# EAGLE library part DCDC-TRACO-THN15 (library eagleLib v2)
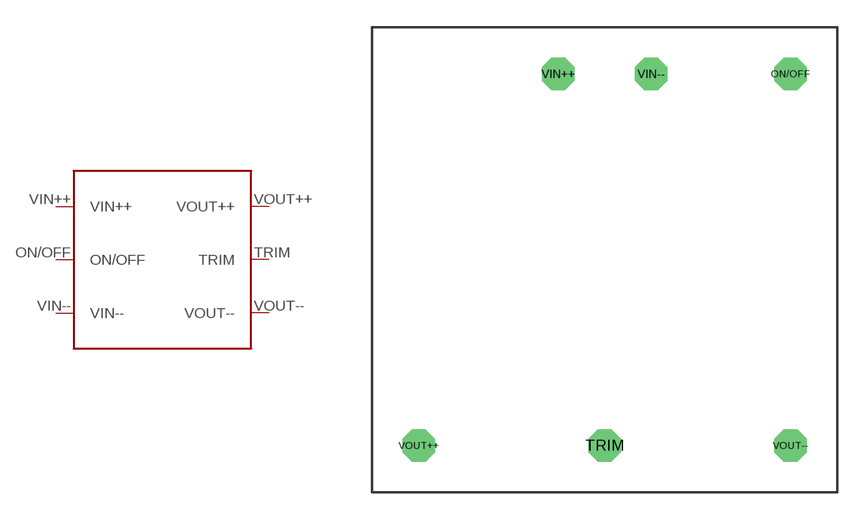
[diagram p69: symbol with the pads of DCDC-TRACO-THN15; footprint DCDC-TRACO-THN15]

Designator prefix -

## DCDC-TRACO-THN1515W  [DCDC-TRACO-THN15]
ON/OFF  ON/OFF
TRIM  TRIM
VIN++  VIN++
VIN--  VIN--
VOUT++  VOUT++
VOUT--  VOUT--

## Footprint DCDC-TRACO-THN15 (pad centres in mm)
drill 1.016 pad 1.778 octagon: ON/OFF 10.16,10.16; TRIM 0,-10.16; VIN++ -2.54,10.16; VIN-- 2.54,10.16; VOUT++ -10.16,-10.16; VOUT-- 10.16,-10.16